# Altium footprint library PCB - LEADED - SOIC - ANALOG SOIC-8 S8 05-08-1610 Rev G.PCBLIB: 1 footprints
Each footprint in its own frame and in the unit in brackets; x right, y up, seen from the top. Pads: shape width x height; smd on the part's side, far side on the other; paste and mask are expansions set on the pad; w line width, h text height; cw(c..) or ccw(c..) is an arc to the next point about the centre after c.
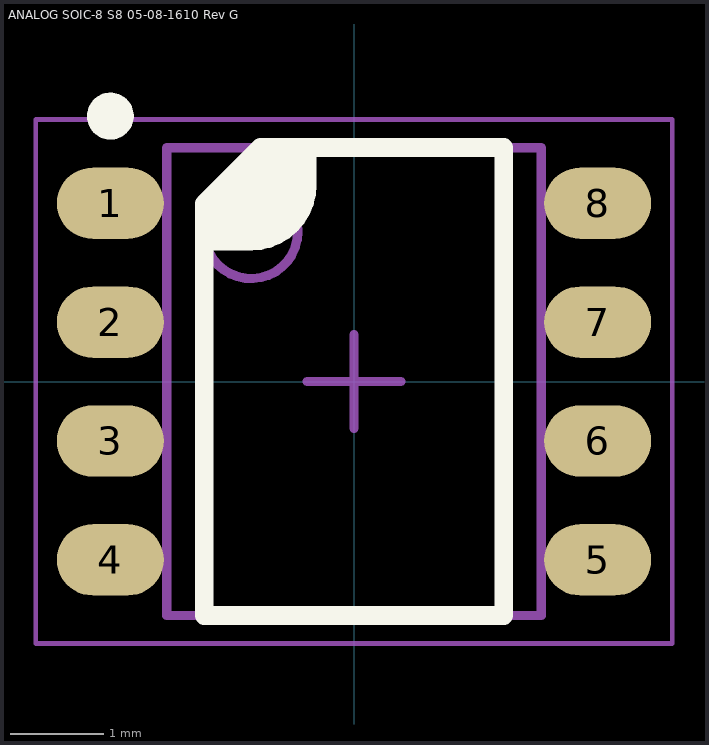
[diagram p0: the footprint, top view; thin cyan lines are the x and y axes]

## ANALOG SOIC-8 S8 05-08-1610 Rev G [mil] "SOIC, 8-Leads, Body 4.90x3.90mm, Pitch 1.27mm, IPC Medium Density"
height 69.29
pads (8):
  oval 45x30 smd: 1(-102.5,75) 2(-102.5,25) 3(-102.5,-25) 4(-102.5,-75) 5(102.5,-75) 6(102.5,-25) 7(102.5,25) 8(102.5,75)
Top Overlay:
  circle w9.84: c-102.5,111.65 r4.92
  region: -39.37,98.43 -62.99,74.8 -62.99,59.06 -35.43,59.06 -19.68,74.8 -19.68,98.43
  lines w7.87: -62.99,59.06 -43.31,59.06 ccw(c-43.31,82.68) -19.68,82.68 -19.68,98.43 ; -62.99,-98.43 -62.99,74.8 -39.37,98.43 62.99,98.43 62.99,-98.43 -62.99,-98.43
Top Assembly:
  circle w3.94: c-43.31,62.99 r19.68
  lines w3.94: -78.74,-98.43 -78.74,98.43 78.74,98.43 78.74,-98.43 -78.74,-98.43
Top Courtyard:
  lines w1.97: -133.86,-110.24 -133.86,110.24 133.86,110.24 133.86,-110.24 -133.86,-110.24
  lines w3.94: -19.68,0 19.68,0 ; 0,-19.68 0,19.68
3D body "ANALOG SOIC-8 S8 05-08-1610 Rev G.step": height 68.98, standoff 0, extent -117.99,-98.43 117.99,98.43